# EAGLE library part LDC1614 (library LDC1614)
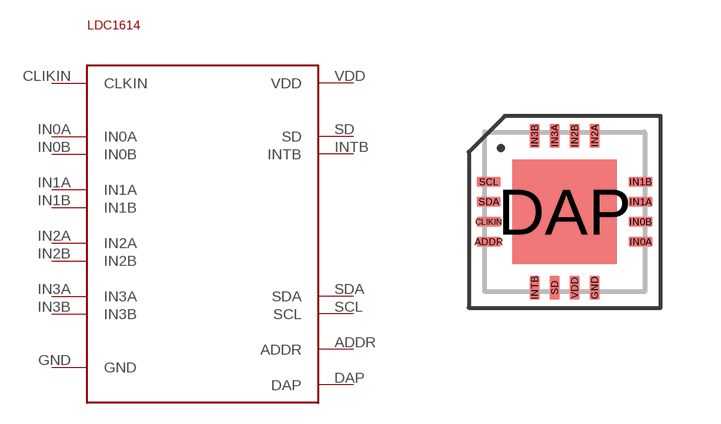
[diagram p0: symbol with the pads of WQFN-16; footprint WQFN-16]

Designator prefix -

## LDC1614  [WQFN-16]
ADDR  ADDR
CLIKIN  CLKIN
DAP  DAP
GND  GND
IN0A  IN0A
IN0B  IN0B
IN1A  IN1A
IN1B  IN1B
IN2A  IN2A
IN2B  IN2B
IN3A  IN3A
IN3B  IN3B
INTB  INTB
SCL  SCL
SD  SD
SDA  SDA
VDD  VDD

## Footprint WQFN-16 (pad centres in mm)
smd 0.6 x 0.25: ADDR -1.9,-0.75; CLIKIN -1.9,-0.25; IN0A 1.9,-0.75; IN0B 1.9,-0.25; IN1A 1.9,0.25; IN1B 1.9,0.75; SCL -1.9,0.75; SDA -1.9,0.25
smd 2.6 x 2.6: DAP 0,0
smd 0.25 x 0.6: GND 0.75,-1.9; IN2A 0.75,1.9; IN2B 0.25,1.9; IN3A -0.25,1.9; IN3B -0.75,1.9; INTB -0.75,-1.9; SD -0.25,-1.9; VDD 0.25,-1.9